# Altium integrated library 1461069-5.IntLib: 1 symbol
Pins are listed as number, name and electrical type; pins without a type are passive.

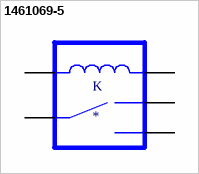
[diagram p0: symbol 1461069-5]

## 1461069-5
designator K
General Purpose Relay SPDT _1 Form C_ 12VDC Coil Through Hole; MP: 1461069-5; MF: TE Connectivity; Value: *; Package: None; SnapEDA_Link: https://www.snapeda.com/parts/1461069-5/TE%20Connectivity%20Potter%20%26%20Brumfield%20Relays/view-part/410849/?ref=snap; TE_purchase_URL: https://www.te.com/usa-en/product-1461069-5.html?te_bu=Cor&te_type=disp&te_campaign=seda_glo_cor-seda-global-disp-prtnr-fy19-seda-model-bom-cta_sma-317_1&elqCampaignId=32493; Price: None; Availability: Unavailable
footprint TE_1461069-5
pins: 1 C, 2 M1, 3 NO, 4 NC, 5 M2